# EAGLE library part HX1-V (library trackuino)
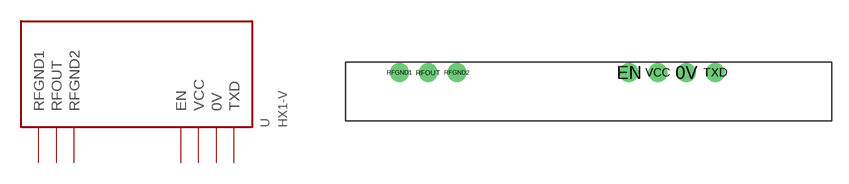
[diagram p4: symbol with the pads of HX1-V; footprint HX1-V]

Designator prefix -

## HX1-V  [HX1-V]
0V  0V
EN  EN
RFGND1  RFGND1
RFGND2  RFGND2
RFOUT  RFOUT
TXD  TXD
VCC  VCC

## Footprint HX1-V (pad centres in mm)
drill 0.8 pad 1.676: 0V 25.4,0; EN 20.32,0; RFGND1 0,0; RFGND2 5.08,0; RFOUT 2.54,0; TXD 27.94,0; VCC 22.86,0